# Altium footprint library 21700_BAT.PcbLib: 1 footprints
Each footprint in its own frame and in the unit in brackets; x right, y up, seen from the top. Pads: shape width x height; smd on the part's side, far side on the other; paste and mask are expansions set on the pad; w line width, h text height; cw(c..) or ccw(c..) is an arc to the next point about the centre after c.
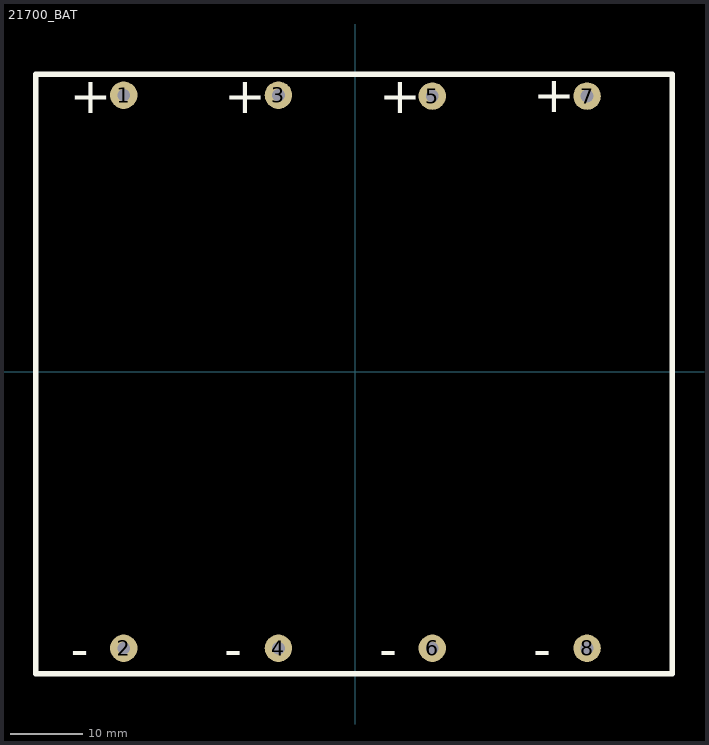
[diagram p0: the footprint, top view; thin cyan lines are the x and y axes]

## 21700_BAT [mil]
pads (8):
  round 150 hole 70: 1(-1265,1510) 2(-1265,-1510) 3(-420,1510) 4(-420,-1510) 5(420,1505) 6(420,-1510) 7(1265,1505) 8(1265,-1510)
Top Overlay:
  lines w30: -1745,-1650 1730,-1650 1730,1625 -1745,1625 -1745,-1650
  text "-" at 970,-1609.97 h200
  text "-" at 130,-1609.97 h200
  text "-" at -715,-1609.97 h200
  text "-" at -1555,-1609.97 h200
  text "+" at 970,1416.68 h200
  text "+" at 130,1411.68 h200
  text "+" at -715,1411.68 h200
  text "+" at -1560,1411.68 h200
Bottom Overlay:
  text "-" at -1555,-1609.97 h200
  text "-" at -715,-1609.97 h200
  text "-" at 970,-1609.97 h200
  text "-" at 130,-1609.97 h200
  text "+" at 970,1416.68 h200
  text "+" at 130,1411.68 h200
  text "+" at -1560,1411.68 h200
  text "+" at -715,1411.68 h200
3D body "Hold_21700-4p.stp": height 858.27, standoff -157.48, extent -1732.28,-1633.86 1732.28,1633.86